# Altium footprint library banlance.PcbLib: 16 footprints
Each footprint in its own frame and in the unit in brackets; x right, y up, seen from the top. Pads: shape width x height; smd on the part's side, far side on the other; paste and mask are expansions set on the pad; w line width, h text height; cw(c..) or ccw(c..) is an arc to the next point about the centre after c.
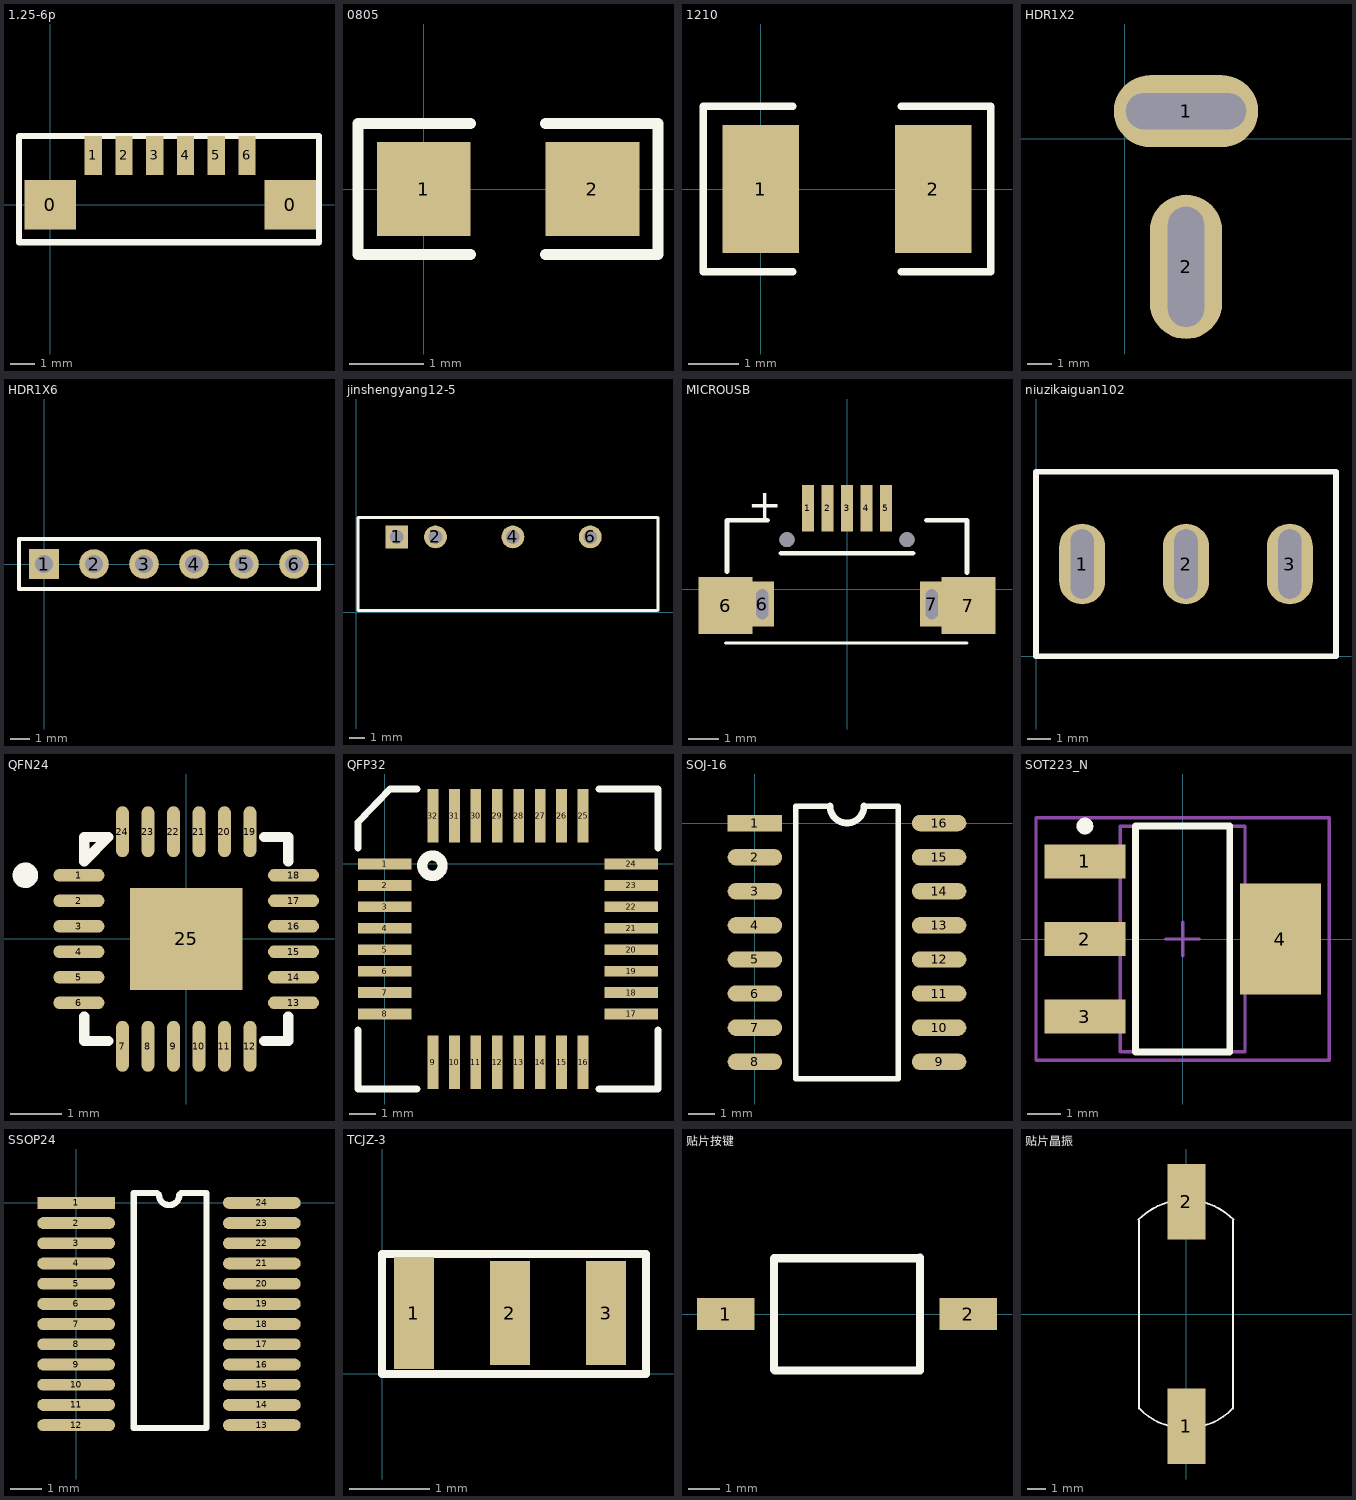
[diagram p0: the footprints below, top view; thin cyan lines are the x and y axes]

## 1.25-6p [mm]
pads (8):
  rect 2.1x2 smd: 0(0,0) 0(9.75,0)
  rect 0.7x1.6 smd: 1(1.75,2) 2(3,2) 3(4.25,2) 4(5.5,2) 5(6.75,2) 6(8,2)
Top Overlay:
  lines w0.254: -1.27,-1.524 10.922,-1.524 10.922,2.794 -1.27,2.794 -1.27,-1.524

## 0805 [mil]
pads (2):
  rect 50x50 smd: 1(0,0) 2(90,0)
Top Overlay:
  lines w5.91: 25,-35 -35,-35 -35,35 25,35 ; 65,-35 125,-35 125,35 65,35

## 1210 [mil]
pads (2):
  rect 60x100 smd: 1(0,0) 2(135,0)
Top Overlay:
  lines w5.91: 25,-65 -45,-65 -45,65 25,65 ; 110,-65 180,-65 180,65 110,65

## HDR1X2 [mm] "Connector; Header; 2 Position"
pads (2):
  oval 6x3 hole 1.5 slot 5 at 0 deg: 1(2.54,1.143)
  oval 3x6 hole 1.5 slot 5 at 90 deg: 2(2.54,-5.334)

## HDR1X6 [mm] "Connector; Header; 6 Position"
pads (6):
  rect 1.5x1.5 hole 0.9: 1(0,0)
  round 1.5 hole 0.9: 2(2.54,0) 3(5.08,0) 4(7.62,0) 5(10.16,0) 6(12.7,0)
Top Overlay:
  lines w0.2: -1.27,-1.27 -1.27,1.27 13.97,1.27 13.97,-1.27 -1.27,-1.27

## jinshengyang12-5 [mm]
pads (4):
  rect 1.5x1.5 hole 0.9: 1(2.667,4.953)
  round 1.5 hole 0.9: 2(5.207,4.953) 4(10.287,4.953) 6(15.367,4.953)
Top Overlay:
  lines w0.2: 19.727,0.127 0.127,0.127 0.127,6.223 19.727,6.223 ; 19.812,0.127 19.812,6.223

## MICROUSB [mm]
pads (11):
  rect 0.4x1.55 smd: 1(-1.3,2.708) 2(-0.65,2.708) 3(0,2.708) 4(0.65,2.708) 5(1.3,2.708)
  rect 1.8x1.9 smd: 6(-4.05,-0.55) 7(4.05,-0.55)
  rect 0.8x1.5 hole 0.4 slot 1 at 90 deg: 6(-2.825,-0.5) 7(2.825,-0.5)
  round 0.5 hole 0.5 unplated: ""(-2,1.65) ""(2,1.65)
Top Overlay:
  lines w0.1: -4.05,-1.8 4,-1.8
  lines w0.152: -4,0.584 -4,2.3 -2.65,2.3 ; -2.2,1.2 2.2,1.2 ; 2.65,2.3 4,2.3 4,0.55
  text "+" at -3.3,2.35 h1
Mechanical 1:
  lines w0.127: -3.054,-1.043 -2.596,-1.043 ; -3.054,-1.043 -3.054,0.075 ; -3.054,-1.043 -3.054,0.075 ; -3.054,-1.043 -2.596,-1.043 ; -3.054,0.075 -2.596,0.075 ; -3.054,0.075 -2.596,0.075 ; -2.596,-1.043 -2.596,0.075 ; -2.596,-1.043 -2.596,0.075 ; 2.596,-1.043 2.596,0.075 ; 2.596,-1.043 3.054,-1.043 ; 2.596,-1.043 2.596,0.075 ; 2.596,-1.043 3.054,-1.043 ; 2.596,0.075 3.054,0.075 ; 2.596,0.075 3.054,0.075 ; 3.054,-1.043 3.054,0.075 ; 3.054,-1.043 3.054,0.075
3D body: height 0.1, standoff 0, extent 3.962,-1.6 4.722,0.504
3D body: height 0.1, standoff 0, extent -4.699,-1.6 -3.939,0.504
3D body: height 0.25, standoff 0, extent -3.926,-2.489 3.962,2.328

## niuzikaiguan102 [mm]
pads (3):
  oval 2x3.5 hole 1 slot 3 at 90 deg: 1(2,4) 2(6.5,4) 3(11,4)
Top Overlay:
  lines w0.254: 0,0 13,0 13,8 0,8 0,0

## QFN24 [mm]
pads (25):
  oval 1x0.25 smd: 1(-2.104,1.25) 2(-2.104,0.75) 3(-2.104,0.25) 4(-2.104,-0.25) 5(-2.104,-0.75) 6(-2.104,-1.25) 13(2.104,-1.25) 14(2.104,-0.75) 15(2.104,-0.25) 16(2.104,0.25) 17(2.104,0.75) 18(2.104,1.25)
  oval 0.25x1 smd: 7(-1.25,-2.104) 8(-0.75,-2.104) 9(-0.25,-2.104) 10(0.25,-2.104) 11(0.75,-2.104) 12(1.25,-2.104) 19(1.25,2.104) 20(0.75,2.104) 21(0.25,2.104) 22(-0.25,2.104) 23(-0.75,2.104) 24(-1.25,2.104)
  rect 2.2x2 smd: 25(0,0)
Top Overlay:
  circle w0.25: c-3.154,1.25 r0.125
  lines w0.2: -2,-1.525 -2,-2 -1.525,-2 ; -2,1.525 -2,2 -1.525,2 ; 1.525,-2 2,-2 2,-1.525 ; 1.525,2 2,2 2,1.525
  lines w0.203: -2,1.525 -1.525,2
3D body: height 0.25, standoff 0, extent -1.778,-1.778 1.778,1.778

## QFP32 [mm]
pads (32):
  rect 2x0.4 smd: 1(0,0) 2(0,-0.8) 3(0,-1.6) 4(0,-2.4) 5(0,-3.2) 6(0,-4) 7(0,-4.8) 8(0,-5.6) 17(9.2,-5.6) 18(9.2,-4.8) 19(9.2,-4) 20(9.2,-3.2) 21(9.2,-2.4) 22(9.2,-1.6) 23(9.2,-0.8) 24(9.2,0)
  rect 0.4x2 smd: 9(1.8,-7.4) 10(2.6,-7.4) 11(3.4,-7.4) 12(4.2,-7.4) 13(5,-7.4) 14(5.8,-7.4) 15(6.6,-7.4) 16(7.4,-7.4) 25(7.4,1.8) 26(6.6,1.8) 27(5.8,1.8) 28(5,1.8) 29(4.2,1.8) 30(3.4,1.8) 31(2.6,1.8) 32(1.8,1.8)
Top Overlay:
  circle w0.381: c1.777,-0.063 r0.381
  lines w0.254: -1,-6.2 -1,-8.4 1.2,-8.4 ; -1,0.6 -1,1.556 0.19,2.8 1.2,2.8 ; 8,-8.4 10.2,-8.4 10.2,-6.2 ; 8,2.8 10.2,2.8 10.2,0.6

## SOJ-16 [mil]
pads (16):
  rect 80x24 smd: 1(0,0)
  oval 80x24 smd: 2(0,-50) 3(0,-100) 4(0,-150) 5(0,-200) 6(0,-250) 7(0,-300) 8(0,-350) 9(270,-350) 10(270,-300) 11(270,-250) 12(270,-200) 13(270,-150) 14(270,-100) 15(270,-50) 16(270,0)
Top Overlay:
  lines w8: 110,25 60,25 60,-375 210,-375 210,25 160,25
  lines w10: 110,25 ccw(c135,25) 160,25

## SOT223_N [mm] "SOT223, 4-Leads, Body 6.5x3.5mm, Pitch 2.3mm, Lead Span 7mm, IPC Medium Density"
height 1.7
pads (4):
  rect 2.4x1 smd: 1(-2.9,2.3) 2(-2.9,0) 3(-2.9,-2.3)
  rect 2.4x3.3 smd: 4(2.9,0)
Top Overlay:
  circle w0.25: c-2.9,3.35 r0.125
  lines w0.2: -1.4,-3.35 1.4,-3.35 1.4,3.35 -1.4,3.35 -1.4,-3.35
Mechanical 13:
  lines w0.1: -1.85,-3.35 1.85,-3.35 1.85,3.35 -1.85,3.35 -1.85,-3.35
Mechanical 15:
  lines w0.1: -0.5,0 0.5,0 ; 0,-0.5 0,0.5 ; -4.35,-3.6 4.35,-3.6 4.35,3.6 -4.35,3.6 -4.35,-3.6
3D body: height 1.7, standoff 0, extent -1.85,-3.35 1.85,3.35

## SSOP24 [mm]
pads (24):
  rect 2.5x0.381 smd: 1(0,0)
  oval 2.5x0.381 smd: 2(0,-0.65) 3(0,-1.3) 4(0,-1.95) 5(0,-2.6) 6(0,-3.25) 7(0,-3.9) 8(0,-4.55) 9(0,-5.2) 10(0,-5.85) 11(0,-6.5) 12(0,-7.15) 13(5.975,-7.15) 14(5.975,-6.5) 15(5.975,-5.85) 16(5.975,-5.2) 17(5.975,-4.55) 18(5.975,-3.9) 19(5.975,-3.25) 20(5.975,-2.6) 21(5.975,-1.95) 22(5.975,-1.3) 23(5.975,-0.65) 24(5.975,0)
Top Overlay:
  lines w0.2: 1.852,-7.245 4.198,-7.245 4.198,0.315 3.379,0.315 3.318,0.254 cw(c2.993,0.254) 2.667,0.254 2.606,0.315 1.852,0.315 1.852,-7.245

## TCJZ-3 [mm]
pads (3):
  rect 0.5x1.4 smd: 1(0.4,0.762)
  rect 0.5x1.3 smd: 2(1.6,0.762) 3(2.8,0.762)
Top Overlay:
  lines w0.1: 0,0 3.3,0 3.3,1.5 0,1.5 0,0

## 贴片按键 [mm]
pads (2):
  rect 1.8x1 smd: 1(4.445,0) 2(12.065,0)
Top Overlay:
  lines w0.254: 5.969,-1.75 5.969,0 5.969,1.75 10.513,1.75 10.541,1.778 10.541,-1.778 5.997,-1.778 5.969,-1.75

## 贴片晶振 [mm]
pads (2):
  rect 2x4 smd: 1(0,-5.969) 2(0,5.969)
Top Overlay:
  lines w0.1: -2.558,5.006 cw(c-0.025,2.515) 2.507,5.006 ; -2.525,-5.025 -2.525,4.975 ; -2.519,-5.019 ccw(c-0.025,-2.565) 2.468,-5.019 ; 2.475,-5.025 2.475,4.975